# Altium footprint library SOP65P490X110-13N.PcbLib: 1 footprints
Each footprint in its own frame and in the unit in brackets; x right, y up, seen from the top. Pads: shape width x height; smd on the part's side, far side on the other; paste and mask are expansions set on the pad; w line width, h text height; cw(c..) or ccw(c..) is an arc to the next point about the centre after c.
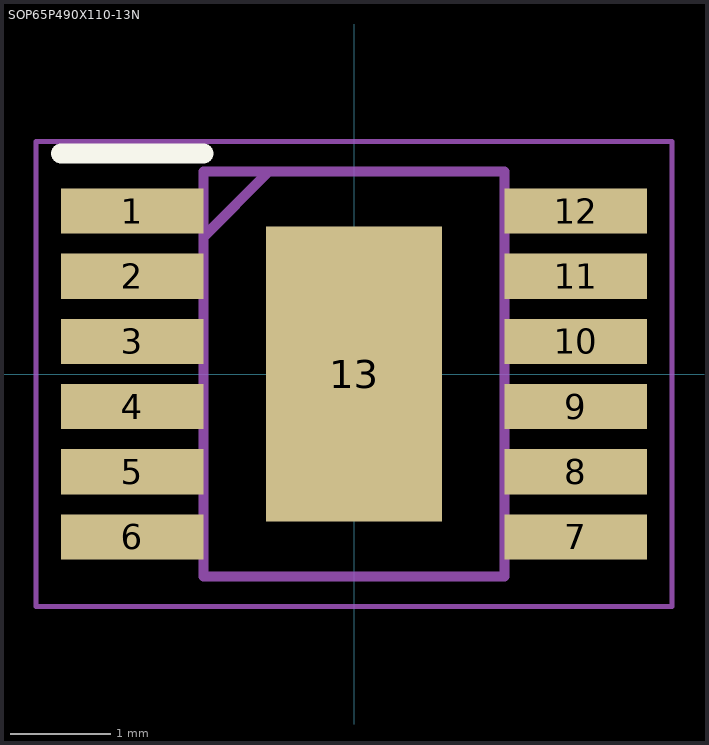
[diagram p0: the footprint, top view; thin cyan lines are the x and y axes]

## SOP65P490X110-13N [mm]
pads (13):
  rect 1.425x0.45 smd: 1(-2.212,1.625) 2(-2.212,0.975) 3(-2.212,0.325) 4(-2.212,-0.325) 5(-2.212,-0.975) 6(-2.212,-1.625) 7(2.212,-1.625) 8(2.212,-0.975) 9(2.212,-0.325) 10(2.212,0.325) 11(2.212,0.975) 12(2.212,1.625)
  rect 1.753x2.947 smd: 13(0,0)
Top Overlay:
  lines w0.2: -2.925,2.2 -1.5,2.2
Mechanical 15:
  lines w0.1: -1.5,1.37 -0.85,2.02 ; -1.5,-2.02 1.5,-2.02 1.5,2.02 -1.5,2.02 -1.5,-2.02
Mechanical 20:
  lines w0.05: -3.175,-2.32 3.175,-2.32 3.175,2.32 -3.175,2.32 -3.175,-2.32
3D body "LT3652IMSE#PBF.stp": height 5.8, standoff -4.65, extent -10,-3.376 10,3.376